# EAGLE library part BWR-5/6-3.3/7-D12-C (library ARVP_Linear_Technology)
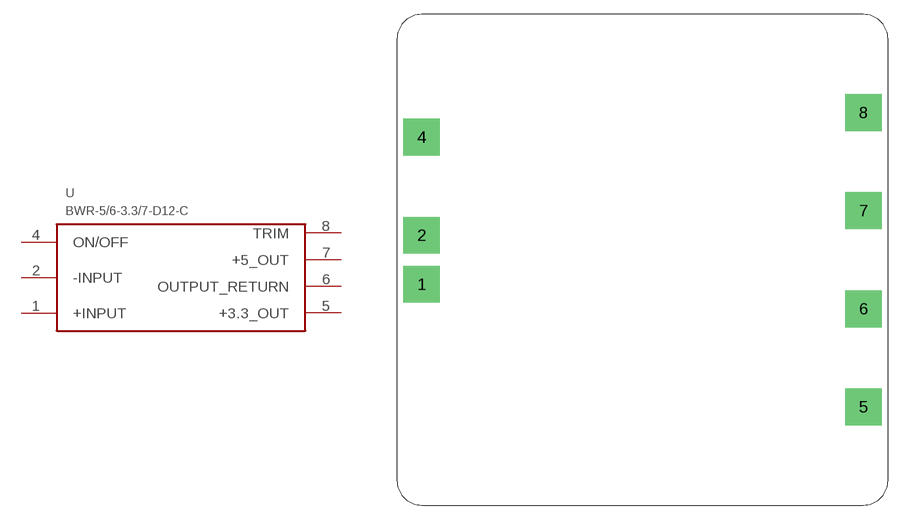
[diagram p4: symbol with the pads of BWR-5/6-3.3/7-D12-C; footprint BWR-5/6-3.3/7-D12-C]

Designator prefix -

## BWR-5/6-3.3/7-D12-C  [BWR-5/6-3.3/7-D12-C]
1  +INPUT  in
2  -INPUT  in
4  ON/OFF
5  +3.3_OUT  out
6  OUTPUT_RETURN  pwr
7  +5_OUT  out
8  TRIM

## Footprint BWR-5/6-3.3/7-D12-C (pad centres in mm)
drill 1.2 pad 3.81 square: 1 -22.86,-2.54; 2 -22.86,2.54; 4 -22.86,12.7; 5 22.86,-15.24; 6 22.86,-5.08; 7 22.86,5.08; 8 22.86,15.24